# Altium footprint library IC_SMD_DUAL.PCBLIB: 187 footprints (part 2 of 12)
Each footprint in its own frame and in the unit in brackets; x right, y up, seen from the top. Pads: shape width x height; smd on the part's side, far side on the other; paste and mask are expansions set on the pad; w line width, h text height; cw(c..) or ccw(c..) is an arc to the next point about the centre after c.
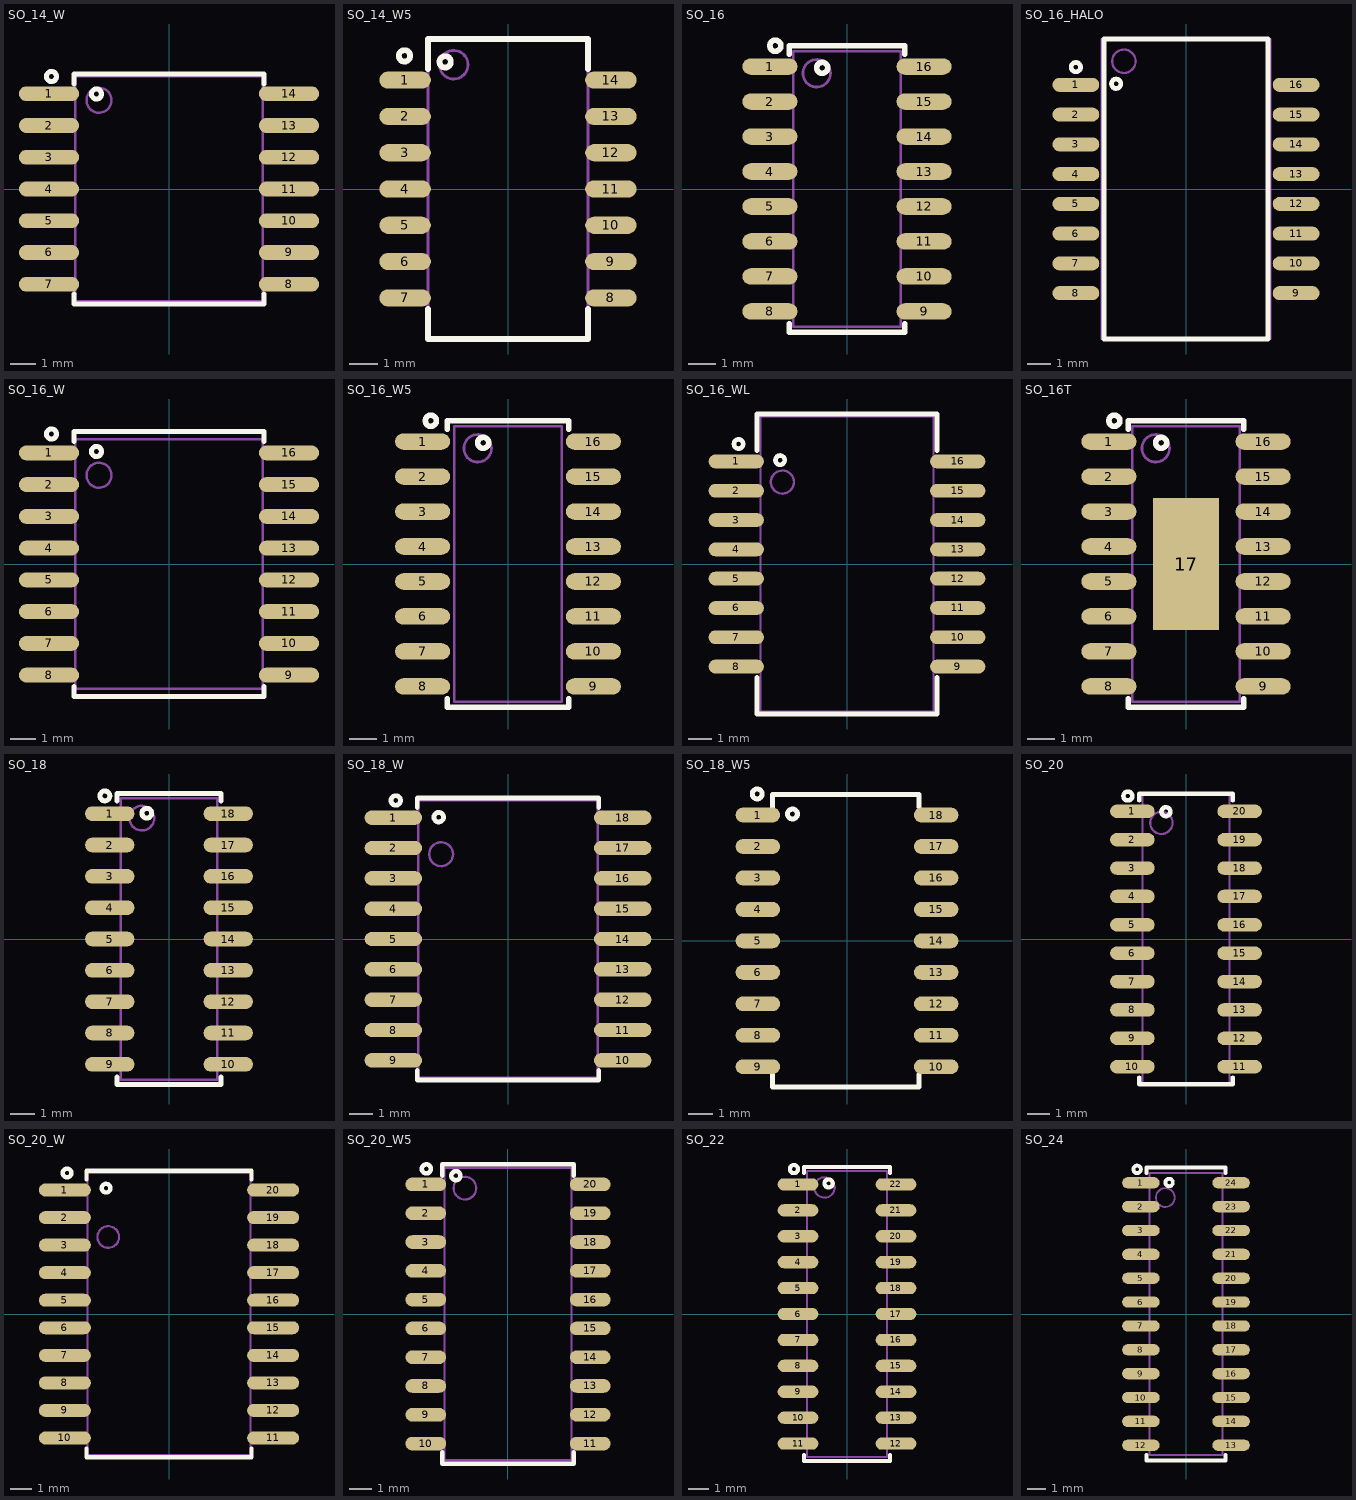
[diagram p1: the footprints below, top view; thin cyan lines are the x and y axes]

## SO_14_W [mm] "SOP, SOIC, 7.5mm width, 1.27mm pitch,"
pads (14):
  oval 2.4x0.6 smd: 1(-4.8,3.81) 2(-4.8,2.54) 3(-4.8,1.27) 4(-4.8,0) 5(-4.8,-1.27) 6(-4.8,-2.54) 7(-4.8,-3.81) 8(4.8,-3.81) 9(4.8,-2.54) 10(4.8,-1.27) 11(4.8,0) 12(4.8,1.27) 13(4.8,2.54) 14(4.8,3.81)
TopOverlay:
  circle w0.2: c-4.7,4.5 r0.2
  circle w0.2: c-2.9,3.8 r0.2
  lines w0.2: -3.8,-4.2 -3.8,-4.6 3.8,-4.6 3.8,-4.2 ; -3.8,4.2 -3.8,4.6 3.8,4.6 3.8,4.2
Mechanical13:
  circle w0.1: c-2.8,3.55 r0.5
  lines w0.1: -3.75,-4.5 -3.75,4.5 3.75,4.5 3.75,-4.5 -3.75,-4.5
3D body "User Library-SOIC14WB.STEP": height 2.67, standoff -0.04, extent -5.25,-4.5 5.25,4.5

## SO_14_W5 [mm] "SOP NS, 5.3mm width, 1.27mm pitch,"
height 2
pads (14):
  oval 1.8x0.6 smd: 1(-3.6,3.81) 2(-3.6,2.54) 3(-3.6,1.27) 4(-3.6,0) 5(-3.6,-1.27) 6(-3.6,-2.54) 7(-3.6,-3.81) 8(3.6,-3.81) 9(3.6,-2.54) 10(3.6,-1.27) 11(3.6,0) 12(3.6,1.27) 13(3.6,2.54) 14(3.6,3.81)
TopOverlay:
  circle w0.2: c-2.2,4.45 r0.2
  circle w0.2: c-3.625,4.66 r0.2
  lines w0.2: -2.8,-4.2 -2.8,-5.25 2.8,-5.25 2.8,-4.2 ; -2.8,4.2 -2.8,5.25 2.8,5.25 2.8,4.2
Mechanical13:
  circle w0.1: c-1.9,4.35 r0.5
  lines w0.1: -2.8,-5.25 2.8,-5.25 2.8,5.25 -2.8,5.25 -2.8,-5.25
3D body "SO_14_W5.step": height 2, standoff 0, extent -3.9,-5.25 3.9,5.25

## SO_16 [mm] "SOP, SOIC, 3.9mm width, 1.27mm pitch,"
pads (16):
  oval 2x0.6 smd: 1(-2.8,4.445) 2(-2.8,3.175) 3(-2.8,1.905) 4(-2.8,0.635) 5(-2.8,-0.635) 6(-2.8,-1.905) 7(-2.8,-3.175) 8(-2.8,-4.445) 9(2.8,-4.445) 10(2.8,-3.175) 11(2.8,-1.905) 12(2.8,-0.635) 13(2.8,0.635) 14(2.8,1.905) 15(2.8,3.175) 16(2.8,4.445)
TopOverlay:
  circle w0.2: c-0.9,4.4 r0.2
  circle w0.2: c-2.6,5.2 r0.2
  lines w0.2: -2.1,-4.9 -2.1,-5.2 2.1,-5.2 2.1,-4.9 ; -2.1,4.9 -2.1,5.2 2.1,5.2 2.1,4.9
Mechanical13:
  circle w0.1: c-1.1,4.2 r0.5
  lines w0.1: -1.95,-5 1.95,-5 1.95,5 -1.95,5 -1.95,-5
3D body "User Library-SOIC-16-3.step": height 1.7, standoff 0, extent -3.1,-4.953 3.098,4.953

## SO_16_HALO [mm] "16pinsoic (HALO)  pitch: 1.27mm, 12.7X7.1X5mm"
height 5
pads (16):
  oval 2x0.6 smd: 1(-4.7,4.445) 2(-4.7,3.175) 3(-4.7,1.905) 4(-4.7,0.635) 5(-4.7,-0.635) 6(-4.7,-1.905) 7(-4.7,-3.175) 8(-4.7,-4.445) 9(4.7,-4.445) 10(4.7,-3.175) 11(4.7,-1.905) 12(4.7,-0.635) 13(4.7,0.635) 14(4.7,1.905) 15(4.7,3.175) 16(4.7,4.445)
TopOverlay:
  circle w0.2: c-2.98,4.49 r0.2
  circle w0.2: c-4.7,5.2 r0.2
  lines w0.2: -3.5,-6.4 3.5,-6.4 3.5,6.4 -3.5,6.4 -3.5,-6.4
Mechanical13:
  circle w0.1: c-2.65,5.45 r0.5
  lines w0.1: -3.6,-6.4 -3.6,6.4 3.6,6.4 3.6,-6.4 -3.6,-6.4
3D body "User Library-Halo_SMD10base-T Module.step": height 5.04, standoff 0, extent -4.754,-6.35 4.763,6.35

## SO_16_W [mm] "SOP, SOIC, 7.5mm width, 1.27mm pitch,"
pads (16):
  oval 2.4x0.6 smd: 1(-4.8,4.445) 2(-4.8,3.175) 3(-4.8,1.905) 4(-4.8,0.635) 5(-4.8,-0.635) 6(-4.8,-1.905) 7(-4.8,-3.175) 8(-4.8,-4.445) 9(4.8,-4.445) 10(4.8,-3.175) 11(4.8,-1.905) 12(4.8,-0.635) 13(4.8,0.635) 14(4.8,1.905) 15(4.8,3.175) 16(4.8,4.445)
TopOverlay:
  circle w0.2: c-2.9,4.5 r0.2
  circle w0.2: c-4.7,5.2 r0.2
  lines w0.2: -3.8,-4.9 -3.8,-5.3 3.8,-5.3 3.8,-4.9 ; -3.8,4.9 -3.8,5.3 3.8,5.3 3.8,4.9
Mechanical13:
  circle w0.1: c-2.8,3.55 r0.5
  lines w0.1: -3.75,-5 3.75,-5 3.75,5 -3.75,5 -3.75,-5
3D body "User Library-SOIC16_Wide_JEDEC_MS-013AA.step": height 2.62, standoff -0.03, extent -5.215,-5.25 5.415,5.25

## SO_16_W5 [mm] "SOP, SOIC, 4.55mm width, 1.27mm pitch,"
pads (16):
  oval 2x0.6 smd: 1(-3.1,4.445) 2(-3.1,3.175) 3(-3.1,1.905) 4(-3.1,0.635) 5(-3.1,-0.635) 6(-3.1,-1.905) 7(-3.1,-3.175) 8(-3.1,-4.445) 9(3.1,-4.445) 10(3.1,-3.175) 11(3.1,-1.905) 12(3.1,-0.635) 13(3.1,0.635) 14(3.1,1.905) 15(3.1,3.175) 16(3.1,4.445)
TopOverlay:
  circle w0.2: c-0.9,4.4 r0.2
  circle w0.2: c-2.8,5.2 r0.2
  lines w0.2: -2.2,-4.9 -2.2,-5.2 2.2,-5.2 2.2,-4.9 ; -2.2,4.9 -2.2,5.2 2.2,5.2 2.2,4.9
Mechanical13:
  circle w0.1: c-1.1,4.2 r0.5
  lines w0.1: -1.95,-5 1.95,-5 1.95,5 -1.95,5 -1.95,-5
3D body "SO16_W5.step": height 2.2, standoff 0, extent -3.5,-5.15 3.5,5.15

## SO_16_WL [mm] "SOP, SOIC, 7.5mm width, 1.27mm pitch, MS-013-AC, RI-16-2, 16-Lead"
height 1.2
pads (16):
  oval 2.4x0.6 smd: 1(-4.8,4.445) 2(-4.8,3.175) 3(-4.8,1.905) 4(-4.8,0.635) 5(-4.8,-0.635) 6(-4.8,-1.905) 7(-4.8,-3.175) 8(-4.8,-4.445) 9(4.8,-4.445) 10(4.8,-3.175) 11(4.8,-1.905) 12(4.8,-0.635) 13(4.8,0.635) 14(4.8,1.905) 15(4.8,3.175) 16(4.8,4.445)
TopOverlay:
  circle w0.2: c-2.9,4.5 r0.2
  circle w0.2: c-4.7,5.2 r0.2
  lines w0.2: -3.9,-4.9 -3.9,-6.5 3.9,-6.5 3.9,-4.9 ; -3.9,4.9 -3.9,6.5 3.9,6.5 3.9,4.9
Mechanical13:
  circle w0.1: c-2.8,3.55 r0.5
  lines w0.1: -3.75,-6.4 3.75,-6.4 3.75,6.4 -3.75,6.4 -3.75,-6.4
3D body "User Library-SOIC16_Wide_JEDEC_MS-013AA.step": height 2.62, standoff -0.03, extent -5.215,-5.25 5.415,5.25
3D body: height 2.6, standoff 0.08, extent -3.75,-6.4 3.8,-5.2
3D body: height 2.6, standoff 0.08, extent -3.75,5.2 3.8,6.4

## SO_16T [mm] "SOP, SOIC, 3.9mm width, 1.27mm pitch,"
pads (17):
  oval 2x0.6 smd: 1(-2.8,4.445) 2(-2.8,3.175) 3(-2.8,1.905) 4(-2.8,0.635) 5(-2.8,-0.635) 6(-2.8,-1.905) 7(-2.8,-3.175) 8(-2.8,-4.445) 9(2.8,-4.445) 10(2.8,-3.175) 11(2.8,-1.905) 12(2.8,-0.635) 13(2.8,0.635) 14(2.8,1.905) 15(2.8,3.175) 16(2.8,4.445)
  rect 2.4x4.8 smd mask+0.1: 17(0,0)
TopOverlay:
  circle w0.2: c-2.6,5.2 r0.2
  circle w0.2: c-0.9,4.4 r0.2
  lines w0.2: -2.1,-4.9 -2.1,-5.2 2.1,-5.2 2.1,-4.9 ; -2.1,4.9 -2.1,5.2 2.1,5.2 2.1,4.9
Mechanical13:
  circle w0.1: c-1.1,4.2 r0.5
  lines w0.1: -1.95,-5 -1.95,5 1.95,5 1.95,-5 -1.95,-5
3D body "User Library-SOIC-16-3.step": height 1.7, standoff 0, extent -3.1,-4.953 3.098,4.953

## SO_18 [mm] "SOP, SOIC, 3.9mm width, 1.27mm pitch,"
pads (18):
  oval 2x0.6 smd: 1(-2.4,5.08) 2(-2.4,3.81) 3(-2.4,2.54) 4(-2.4,1.27) 5(-2.4,0) 6(-2.4,-1.27) 7(-2.4,-2.54) 8(-2.4,-3.81) 9(-2.4,-5.08) 10(2.4,-5.08) 11(2.4,-3.81) 12(2.4,-2.54) 13(2.4,-1.27) 14(2.4,0) 15(2.4,1.27) 16(2.4,2.54) 17(2.4,3.81) 18(2.4,5.08)
TopOverlay:
  circle w0.2: c-0.9,5.1 r0.2
  circle w0.2: c-2.6,5.8 r0.2
  lines w0.2: -2.1,-5.6 -2.1,-5.9 2.1,-5.9 2.1,-5.6 ; -2.1,5.6 -2.1,5.9 2.1,5.9 2.1,5.6
Mechanical13:
  circle w0.1: c-1.1,4.9 r0.5
  lines w0.1: -1.95,-5.7 1.95,-5.7 1.95,5.7 -1.95,5.7 -1.95,-5.7
3D body "SOIC127P600-8N.step": height 2, standoff 0, extent -3.1,-5.75 3.1,5.75

## SO_18_W [mm] "SOP, SOIC, 7.5mm width, 1.27mm pitch,"
pads (18):
  oval 2.4x0.6 smd: 1(-4.8,5.08) 2(-4.8,3.81) 3(-4.8,2.54) 4(-4.8,1.27) 5(-4.8,0) 6(-4.8,-1.27) 7(-4.8,-2.54) 8(-4.8,-3.81) 9(-4.8,-5.08) 10(4.8,-5.08) 11(4.8,-3.81) 12(4.8,-2.54) 13(4.8,-1.27) 14(4.8,0) 15(4.8,1.27) 16(4.8,2.54) 17(4.8,3.81) 18(4.8,5.08)
TopOverlay:
  circle w0.2: c-4.7,5.8 r0.2
  circle w0.2: c-2.9,5.1 r0.2
  lines w0.2: -3.8,-5.5 -3.8,-5.9 3.8,-5.9 3.8,-5.5 ; -3.8,5.5 -3.8,5.9 3.8,5.9 3.8,5.5
Mechanical13:
  circle w0.1: c-2.8,3.55 r0.5
  lines w0.1: -3.75,-5.8 -3.75,5.8 3.75,5.8 3.75,-5.8 -3.75,-5.8
3D body "User Library-SOIC18-300.step": height 2.65, standoff 0, extent -5.15,-5.765 5.15,5.765

## SO_18_W5 [mm] "SOP-18, 5.4mm width, 1.27mm pitch,"
pads (18):
  oval 1.8x0.6 smd: 1(-3.6,5.08) 2(-3.6,3.81) 3(-3.6,2.54) 4(-3.6,1.27) 5(-3.6,0) 6(-3.6,-1.27) 7(-3.6,-2.54) 8(-3.6,-3.81) 9(-3.6,-5.08) 10(3.6,-5.08) 11(3.6,-3.81) 12(3.6,-2.54) 13(3.6,-1.27) 14(3.6,0) 15(3.6,1.27) 16(3.6,2.54) 17(3.6,3.81) 18(3.6,5.08)
TopOverlay:
  circle w0.2: c-2.2,5.12 r0.2
  circle w0.2: c-3.625,5.93 r0.2
  lines w0.2: -3,-5.4 -3,-5.9 2.9,-5.9 2.9,-5.4 ; -3,5.4 -3,5.9 2.9,5.9 2.9,5.4
3D body "SO_18_W55.step": height 2, standoff 0, extent -3.9,-5.8 3.9,5.8

## SO_20 [mm] "SOP, SOIC, 3.9mm width, 1.27mm pitch,"
pads (20):
  oval 2x0.6 smd: 1(-2.4,5.715) 2(-2.4,4.445) 3(-2.4,3.175) 4(-2.4,1.905) 5(-2.4,0.635) 6(-2.4,-0.635) 7(-2.4,-1.905) 8(-2.4,-3.175) 9(-2.4,-4.445) 10(-2.4,-5.715) 11(2.4,-5.715) 12(2.4,-4.445) 13(2.4,-3.175) 14(2.4,-1.905) 15(2.4,-0.635) 16(2.4,0.635) 17(2.4,1.905) 18(2.4,3.175) 19(2.4,4.445) 20(2.4,5.715)
TopOverlay:
  circle w0.2: c-2.6,6.4 r0.2
  circle w0.2: c-0.9,5.7 r0.2
  lines w0.2: -2.1,-6.2 -2.1,-6.5 2.1,-6.5 2.1,-6.2 ; -2.1,6.2 -2.1,6.5 2.1,6.5 2.1,6.2
Mechanical13:
  circle w0.1: c-1.1,5.2 r0.5
  lines w0.1: -1.95,-6.5 -1.95,6.5 1.95,6.5 1.95,-6.5 -1.95,-6.5
3D body "SOIC127P600-8N.step": height 2, standoff 0, extent -3.1,-6.5 3.1,6.5

## SO_20_W [mm] "SOP, SOIC, 7.5mm width, 1.27mm pitch,"
pads (20):
  oval 2.4x0.6 smd: 1(-4.8,5.715) 2(-4.8,4.445) 3(-4.8,3.175) 4(-4.8,1.905) 5(-4.8,0.635) 6(-4.8,-0.635) 7(-4.8,-1.905) 8(-4.8,-3.175) 9(-4.8,-4.445) 10(-4.8,-5.715) 11(4.8,-5.715) 12(4.8,-4.445) 13(4.8,-3.175) 14(4.8,-1.905) 15(4.8,-0.635) 16(4.8,0.635) 17(4.8,1.905) 18(4.8,3.175) 19(4.8,4.445) 20(4.8,5.715)
TopOverlay:
  circle w0.2: c-4.7,6.5 r0.2
  circle w0.2: c-2.9,5.8 r0.2
  lines w0.2: -3.8,-6.2 -3.8,-6.6 3.8,-6.6 3.8,-6.2 ; -3.8,6.2 -3.8,6.6 3.8,6.6 3.8,6.2
Mechanical13:
  circle w0.1: c-2.8,3.55 r0.5
  lines w0.1: -3.75,-6.5 -3.75,6.5 3.75,6.5 3.75,-6.5 -3.75,-6.5
3D body "User Library-SOIC20_W.STEP": height 2.65, standoff 0, extent -5.325,-6.5 5.325,6.5

## SO_20_W5 [mm] "SOP, 20-Leads, Body 12.60x5.30mm, Pitch 1.27mm, NS"
height 2
pads (20):
  oval 1.8x0.6 smd: 1(-3.625,5.715) 2(-3.625,4.445) 3(-3.625,3.175) 4(-3.625,1.905) 5(-3.625,0.635) 6(-3.625,-0.635) 7(-3.625,-1.905) 8(-3.625,-3.175) 9(-3.625,-4.445) 10(-3.625,-5.715) 11(3.625,-5.715) 12(3.625,-4.445) 13(3.625,-3.175) 14(3.625,-1.905) 15(3.625,-0.635) 16(3.625,0.635) 17(3.625,1.905) 18(3.625,3.175) 19(3.625,4.445) 20(3.625,5.715)
TopOverlay:
  circle w0.2: c-2.3,6.1 r0.2
  circle w0.2: c-3.6,6.4 r0.2
  lines w0.2: -2.9,-6.1 -2.9,-6.6 2.9,-6.6 2.9,-6.1 ; -2.9,6.1 -2.9,6.6 2.9,6.6 2.9,6.1
Mechanical13:
  circle w0.1: c-1.9,5.55 r0.5
  lines w0.1: -2.8,-6.45 2.8,-6.45 2.8,6.45 -2.8,6.45 -2.8,-6.45
3D body "SO_20_W5.step": height 2, standoff 0, extent -3.9,-6.45 3.9,6.45

## SO_22 [mm] "SOP, SOIC, 3.9mm width, 1.27mm pitch,"
pads (22):
  oval 2x0.6 smd: 1(-2.4,6.35) 2(-2.4,5.08) 3(-2.4,3.81) 4(-2.4,2.54) 5(-2.4,1.27) 6(-2.4,0) 7(-2.4,-1.27) 8(-2.4,-2.54) 9(-2.4,-3.81) 10(-2.4,-5.08) 11(-2.4,-6.35) 12(2.4,-6.35) 13(2.4,-5.08) 14(2.4,-3.81) 15(2.4,-2.54) 16(2.4,-1.27) 17(2.4,0) 18(2.4,1.27) 19(2.4,2.54) 20(2.4,3.81) 21(2.4,5.08) 22(2.4,6.35)
TopOverlay:
  circle w0.2: c-0.9,6.4 r0.2
  circle w0.2: c-2.6,7.1 r0.2
  lines w0.2: -2.1,-6.9 -2.1,-7.2 2.1,-7.2 2.1,-6.9 ; -2.1,6.9 -2.1,7.2 2.1,7.2 2.1,6.9
Mechanical13:
  circle w0.1: c-1.1,6.2 r0.5
  lines w0.1: -1.95,-7 1.95,-7 1.95,7 -1.95,7 -1.95,-7
3D body "SOIC127P600-8N.step": height 2, standoff 0, extent -3.1,-7 3.1,7

## SO_24 [mm] "SOP, SOIC, 3.9mm width, 1.27mm pitch,"
pads (24):
  oval 2x0.6 smd: 1(-2.4,6.985) 2(-2.4,5.715) 3(-2.4,4.445) 4(-2.4,3.175) 5(-2.4,1.905) 6(-2.4,0.635) 7(-2.4,-0.635) 8(-2.4,-1.905) 9(-2.4,-3.175) 10(-2.4,-4.445) 11(-2.4,-5.715) 12(-2.4,-6.985) 13(2.4,-6.985) 14(2.4,-5.715) 15(2.4,-4.445) 16(2.4,-3.175) 17(2.4,-1.905) 18(2.4,-0.635) 19(2.4,0.635) 20(2.4,1.905) 21(2.4,3.175) 22(2.4,4.445) 23(2.4,5.715) 24(2.4,6.985)
TopOverlay:
  circle w0.2: c-0.9,7 r0.2
  circle w0.2: c-2.6,7.7 r0.2
  lines w0.2: -2.1,-7.5 -2.1,-7.8 2.1,-7.8 2.1,-7.5 ; -2.1,7.5 -2.1,7.8 2.1,7.8 2.1,7.5
Mechanical13:
  circle w0.1: c-1.1,6.2 r0.5
  lines w0.1: -1.95,-7.5 1.95,-7.5 1.95,7.5 -1.95,7.5 -1.95,-7.5
3D body "SOIC127P600-8N.step": height 2, standoff 0, extent -3.1,-7.5 3.1,7.5